# Altium footprint library JST_B4B-PH-SM4-TB.PcbLib: 1 footprints
Each footprint in its own frame and in the unit in brackets; x right, y up, seen from the top. Pads: shape width x height; smd on the part's side, far side on the other; paste and mask are expansions set on the pad; w line width, h text height; cw(c..) or ccw(c..) is an arc to the next point about the centre after c.
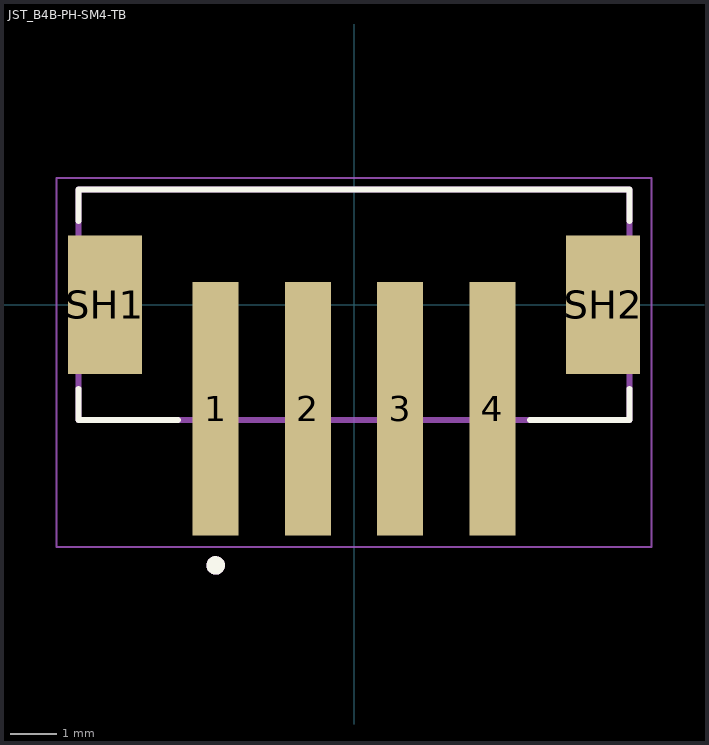
[diagram p0: the footprint, top view; thin cyan lines are the x and y axes]

## JST_B4B-PH-SM4-TB [mm]
height 6.6
pads (6):
  rect 1x5.5 smd: 1(-3,-2.25) 2(-1,-2.25) 3(1,-2.25) 4(3,-2.25)
  rect 1.6x3 smd: SH1(-5.4,0) SH2(5.4,0)
Top Overlay:
  circle w0.2: c-3,-5.65 r0.1
  lines w0.127: -5.975,-1.82 -5.975,-2.5 -3.82,-2.5 ; -5.975,1.82 -5.975,2.5 5.975,2.5 5.975,1.82 ; 3.82,-2.5 5.975,-2.5 5.975,-1.82
Mechanical 13:
  circle w0.2: c-3,-5.65 r0.1
  lines w0.127: -5.975,-2.5 5.975,-2.5 5.975,2.5 -5.975,2.5 -5.975,-2.5
Mechanical 15:
  lines w0.05: -6.45,-5.25 -6.45,2.75 6.45,2.75 6.45,-5.25 -6.45,-5.25